# EAGLE library part SX1308 (library MTS-OTR_Custom)
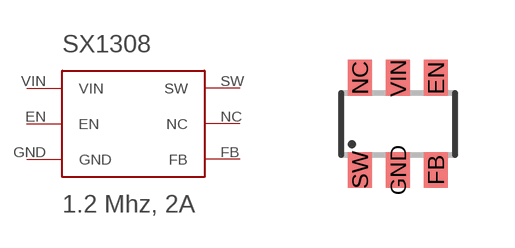
[diagram p37: symbol with the pads of SX1308; footprint SX1308]

Designator prefix -

## SX1308  [SX1308]
EN  EN
FB  FB
GND  GND
NC  NC
SW  SW
VIN  VIN

## Footprint SX1308 (pad centres in mm)
smd 0.6 x 0.9: EN 0.95,1.15; FB 0.95,-1.15; GND 0,-1.15; NC -0.95,1.15; SW -0.95,-1.15; VIN 0,1.15